# Altium footprint library CustomParts.PcbLib: 113 footprints (part 2 of 8)
Each footprint in its own frame and in the unit in brackets; x right, y up, seen from the top. Pads: shape width x height; smd on the part's side, far side on the other; paste and mask are expansions set on the pad; w line width, h text height; cw(c..) or ccw(c..) is an arc to the next point about the centre after c.
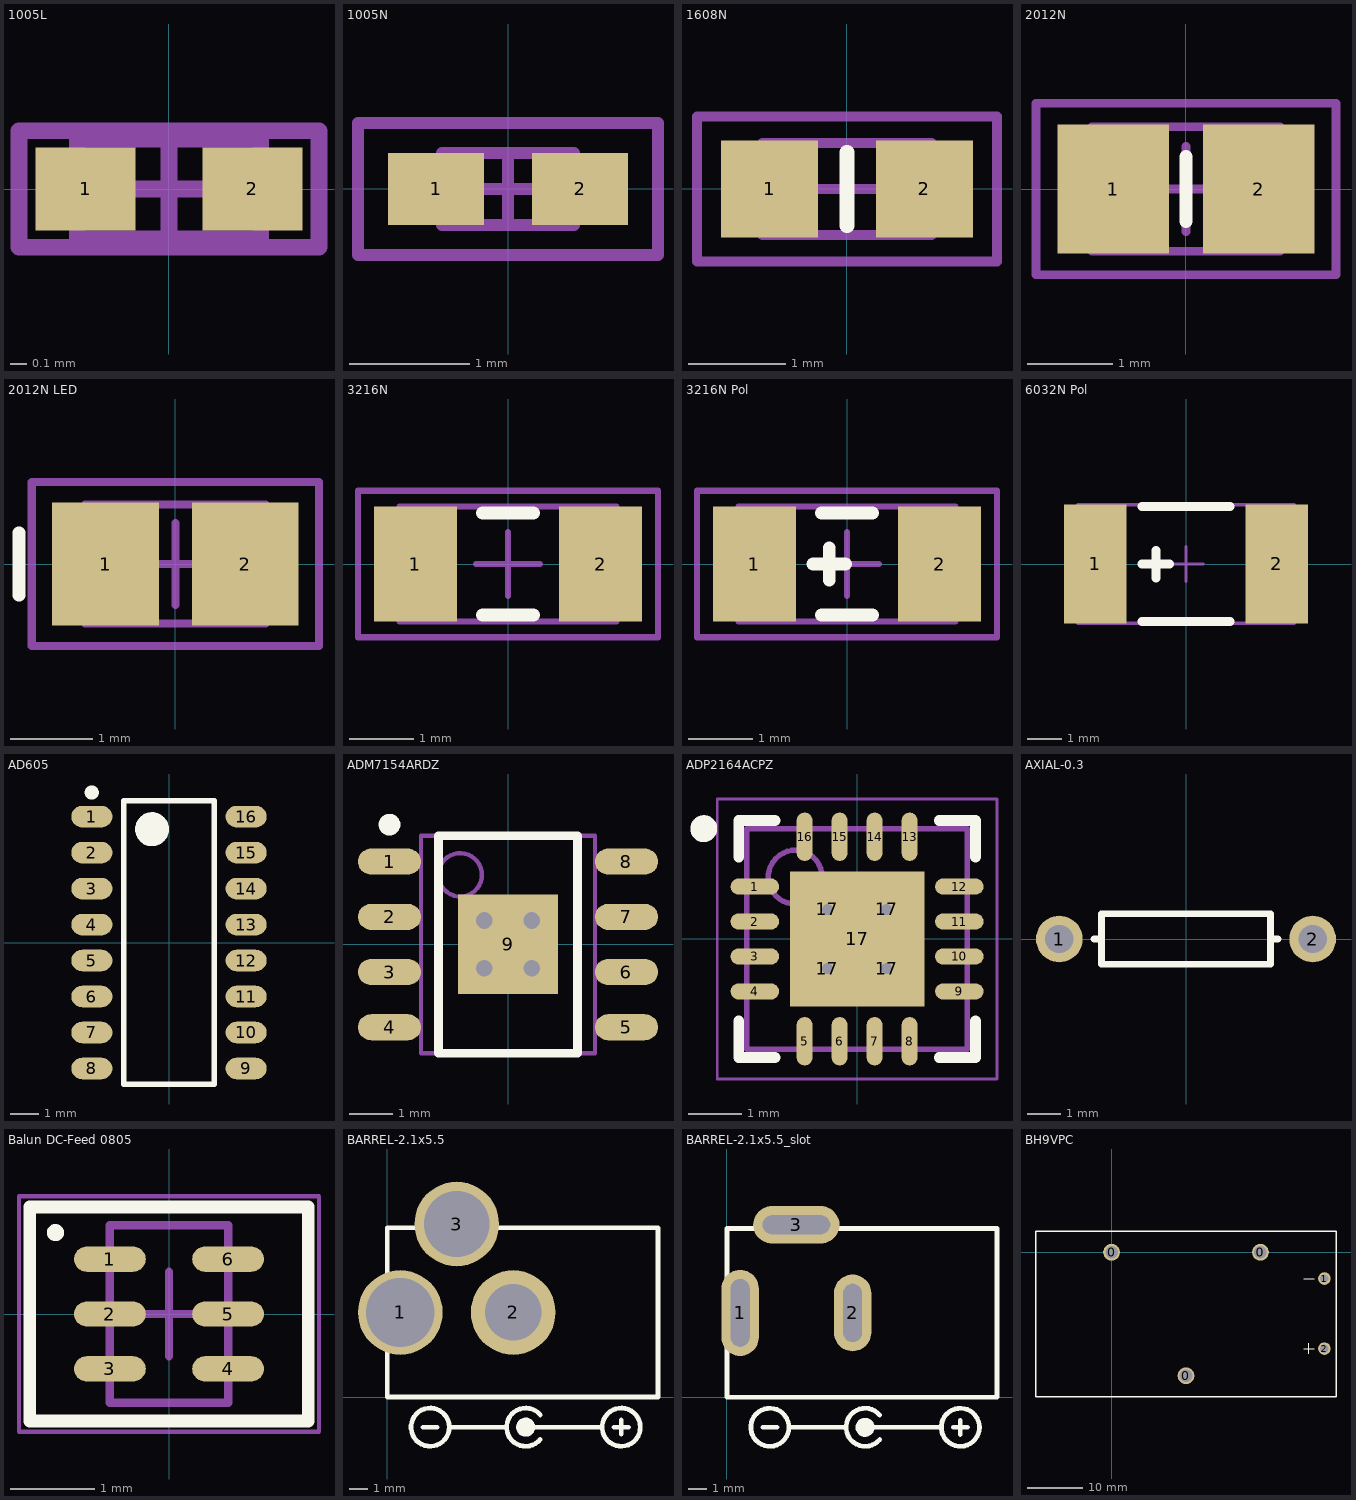
[diagram p1: the footprints below, top view; thin cyan lines are the x and y axes]

## 1005L [mm] "0402 (1005 Metric) from PCBfootprints_290709"
pads (2):
  rect 0.6x0.5 smd: 1(-0.5,0) 2(0.5,0)
Mechanical 13:
  lines w0.1: -0.55,-0.3 -0.55,0.3 0.55,0.3 0.55,-0.3 -0.55,-0.3
Mechanical 15:
  lines w0.1: -0.3,0 0.3,0 ; 0,-0.3 0,0.3 ; -0.9,-0.35 -0.9,0.35 0.9,0.35 0.9,-0.35 -0.9,-0.35
3D body: height 0.6, standoff 0, extent -0.55,-0.3 0.55,0.3

## 1005N [mm] "0402 (1005 Metric) from PCBfootprints_290709"
pads (2):
  rect 0.8x0.6 smd: 1(-0.6,0) 2(0.6,0)
Mechanical 13:
  lines w0.1: -0.55,-0.3 0.55,-0.3 0.55,0.3 -0.55,0.3 -0.55,-0.3
Mechanical 15:
  lines w0.1: -0.3,0 0.3,0 ; 0,-0.3 0,0.3 ; -1.25,-0.55 1.25,-0.55 1.25,0.55 -1.25,0.55 -1.25,-0.55
3D body: height 0.6, standoff 0, extent -0.55,-0.3 0.55,0.3

## 1608N [mm] "0603 (1608 Metric) from PCBfootprints_290709"
pads (2):
  rect 1x1 smd: 1(-0.8,0) 2(0.8,0)
Top Overlay:
  lines w0.152: 0,-0.381 0,0.381
Mechanical 13:
  lines w0.1: -0.875,-0.475 0.875,-0.475 0.875,0.475 -0.875,0.475 -0.875,-0.475
Mechanical 15:
  lines w0.1: -0.475,0 0.475,0 ; 0,-0.475 0,0.475 ; -1.55,-0.75 1.55,-0.75 1.55,0.75 -1.55,0.75 -1.55,-0.75
3D body: height 0.85, standoff 0, extent -0.875,-0.475 0.875,0.475

## 2012N [mm] "0805 (2012 Metric) from PCBfootprints_290709"
pads (2):
  rect 1.3x1.5 smd: 1(-0.85,0) 2(0.85,0)
Top Overlay:
  lines w0.152: 0,-0.381 0,0.381
Mechanical 13:
  lines w0.1: -1.1,-0.725 1.1,-0.725 1.1,0.725 -1.1,0.725 -1.1,-0.725
Mechanical 15:
  lines w0.1: -0.5,0 0.5,0 ; 0,-0.5 0,0.5 ; -1.75,-1 1.75,-1 1.75,1 -1.75,1 -1.75,-1
3D body: height 1.1, standoff 0, extent -1.1,-0.725 1.1,0.725

## 2012N LED [mm] "0805 (2012 Metric) from PCBfootprints_290709"
pads (2):
  rect 1.3x1.5 smd: 1(-0.85,0) 2(0.85,0)
Top Overlay:
  lines w0.152: -1.905,-0.381 -1.905,0.381
Mechanical 13:
  lines w0.1: -1.1,-0.725 1.1,-0.725 1.1,0.725 -1.1,0.725 -1.1,-0.725
Mechanical 15:
  lines w0.1: -0.5,0 0.5,0 ; 0,-0.5 0,0.5 ; -1.75,-1 1.75,-1 1.75,1 -1.75,1 -1.75,-1
3D body: height 1.1, standoff 0, extent -1.1,-0.725 1.1,0.725

## 3216N [mm] "1206 (3216 Metric) from PCBfootprints_290709"
pads (2):
  rect 1.3x1.8 smd: 1(-1.45,0) 2(1.45,0)
Top Overlay:
  lines w0.2: -0.4,-0.8 0.4,-0.8 ; -0.4,0.8 0.4,0.8
Mechanical 13:
  lines w0.1: -1.7,-0.9 -1.7,0.9 1.7,0.9 1.7,-0.9 -1.7,-0.9
Mechanical 15:
  lines w0.1: -0.5,0 0.5,0 ; 0,-0.5 0,0.5 ; -2.35,-1.15 -2.35,1.15 2.35,1.15 2.35,-1.15 -2.35,-1.15
3D body: height 1.35, standoff 0, extent -1.7,-0.9 1.7,0.9

## 3216N Pol [mm] "1206 (3216 Metric) from PCBfootprints_290709"
pads (2):
  rect 1.3x1.8 smd: 1(-1.45,0) 2(1.45,0)
Top Overlay:
  lines w0.2: -0.533,0 -0.025,0 ; -0.4,-0.8 0.4,-0.8 ; -0.4,0.8 0.4,0.8 ; -0.279,-0.254 -0.279,0.254
Mechanical 13:
  lines w0.1: -1.7,-0.9 -1.7,0.9 1.7,0.9 1.7,-0.9 -1.7,-0.9
Mechanical 15:
  lines w0.1: -0.5,0 0.5,0 ; 0,-0.5 0,0.5 ; -2.35,-1.15 -2.35,1.15 2.35,1.15 2.35,-1.15 -2.35,-1.15
3D body: height 1.35, standoff 0, extent -1.7,-0.9 1.7,0.9

## 6032N Pol [mm] "2312 (6032 Metric)"
pads (2):
  rect 1.8x3.4 smd: 1(-2.6,0) 2(2.6,0)
Top Overlay:
  lines w0.254: -1.27,-1.651 1.27,-1.651 ; -1.27,0 -0.47,0 ; -1.27,1.651 1.27,1.651 ; -0.864,-0.406 -0.864,0.394
Mechanical 13:
  lines w0.1: -3.1,-1.7 -3.1,1.7 3.1,1.7 3.1,-1.7 -3.1,-1.7
Mechanical 15:
  lines w0.1: -0.5,0 0.5,0 ; 0,-0.5 0,0.5
3D body: height 2.6, standoff 0, extent -3.099,-1.702 3.099,1.702

## AD605 [mm] "ALtium Generated 16-SOIC (3.90mm Width)"
height 1.75
pads (16):
  oval 1.45x0.762 smd: 1(-2.725,4.445) 2(-2.725,3.175) 3(-2.725,1.905) 4(-2.725,0.635) 5(-2.725,-0.635) 6(-2.725,-1.905) 7(-2.725,-3.175) 8(-2.725,-4.445) 9(2.725,-4.445) 10(2.725,-3.175) 11(2.725,-1.905) 12(2.725,-0.635) 13(2.725,0.635) 14(2.725,1.905) 15(2.725,3.175) 16(2.725,4.445)
Top Overlay:
  circle w0.25: c-2.725,5.295 r0.125
  circle w0.6: c-0.6,4 r0.3
  lines w0.2: -1.6,-5 -1.6,5 1.6,5 1.6,-5 -1.6,-5
3D body: height 1.75, standoff 0.1, extent -2,-5 2,5

## ADM7154ARDZ [mm] "SOIC, 8-Leads, Body 4.90x3.90mm, Pitch 1.27mm, Thermal Pad 2.29x2.29mm, IPC Medium Density"
height 1.75
pads (9):
  oval 1.45x0.6 smd: 1(-2.725,1.905) 2(-2.725,0.635) 3(-2.725,-0.635) 4(-2.725,-1.905) 5(2.725,-1.905) 6(2.725,-0.635) 7(2.725,0.635) 8(2.725,1.905)
  rect 2.29x2.29 smd: 9(0,0)
via -0.55,0.55 diameter 0.762 hole 0.381
via 0.55,0.55 diameter 0.762 hole 0.381
via -0.55,-0.55 diameter 0.762 hole 0.381
via 0.55,-0.55 diameter 0.762 hole 0.381
Top Overlay:
  circle w0.25: c-2.725,2.755 r0.125
  lines w0.2: -1.6,-2.5 -1.6,2.5 1.6,2.5 1.6,-2.5 -1.6,-2.5
Mechanical 13:
  circle w0.1: c-1.1,1.6 r0.5
  lines w0.1: -2,-2.5 -2,2.5 2,2.5 2,-2.5 -2,-2.5
3D body: height 1.75, standoff 0.05, extent -2,-2.5 2,2.5

## ADP2164ACPZ [mm] "QFN, 16-Leads, Body 4.00x4.00mm, Pitch 0.65mm, Thermal Pad 2.50x2.50mm, IPC Medium Density"
height 0.8
pads (21):
  oval 0.9x0.3 smd: 1(-1.9,0.975) 2(-1.9,0.325) 3(-1.9,-0.325) 4(-1.9,-0.975) 9(1.9,-0.975) 10(1.9,-0.325) 11(1.9,0.325) 12(1.9,0.975)
  oval 0.3x0.9 smd: 5(-0.975,-1.9) 6(-0.325,-1.9) 7(0.325,-1.9) 8(0.975,-1.9) 13(0.975,1.9) 14(0.325,1.9) 15(-0.325,1.9) 16(-0.975,1.9)
  round 0.508 hole 0.203: 17(-0.55,-0.55) 17(-0.55,0.55) 17(0.55,-0.55) 17(0.55,0.55)
  rect 2.5x2.5 smd: 17(0,0)
Top Overlay:
  circle w0.25: c-2.85,2.05 r0.125
  lines w0.2: -2.2,-1.525 -2.2,-2.2 -1.525,-2.2 ; -2.2,1.525 -2.2,2.2 -1.525,2.2 ; 1.525,-2.2 2.2,-2.2 2.2,-1.525 ; 1.525,2.2 2.2,2.2 2.2,1.525
Mechanical 13:
  circle w0.1: c-1.15,1.15 r0.5
  lines w0.1: -2.05,-2.05 2.05,-2.05 2.05,2.05 -2.05,2.05 -2.05,-2.05
Mechanical 15:
  lines w0.05: -2.6,-2.6 2.6,-2.6 2.6,2.6 -2.6,2.6 -2.6,-2.6
  lines w0.1: -0.5,0 0.5,0 ; 0,-0.5 0,0.5
3D body "QFN65P400X400X80_HS-17N.step": height 0.8, standoff 0, extent -2.07,-2.07 2.07,2.07

## AXIAL-0.3 [mm] "Axial Device, Thru-Hole; 2 Leads; 0.3 in Pin Spacing"
height 1.524
pads (2):
  round 1.4 hole 0.85: 1(-3.81,0) 2(3.81,0)
Top Overlay:
  lines w0.203: -2.769,0 -2.54,0 ; 2.769,0 2.54,0 ; 2.54,0 2.54,-0.762 -2.54,-0.762 -2.54,0.762 2.54,0.762 2.54,0

## Balun DC-Feed 0805 [mm] "Chip Array, Flat, 6-Leads, Pitch 0.65mm,  Body 2.00x1.25mm,  IPC Medium Density"
height 0.7
pads (6):
  oval 0.85x0.3 smd: 1(-0.7,0.65) 2(-0.7,0) 3(-0.7,-0.65) 4(0.7,-0.65) 5(0.7,0) 6(0.7,0.65)
Top Overlay:
  circle w0.102: c-1.346,0.965 r0.051
  lines w0.152: -1.651,-1.27 1.651,-1.27 1.651,1.27 -1.651,1.27 -1.651,-1.27
Mechanical 13:
  lines w0.1: -0.7,-1.05 0.7,-1.05 0.7,1.05 -0.7,1.05 -0.7,-1.05
Mechanical 15:
  lines w0.05: -1.778,-1.397 1.778,-1.397 1.778,1.397 -1.778,1.397 -1.778,-1.397
  lines w0.1: -0.5,0 0.5,0 ; 0,-0.5 0,0.5
3D body "BAL.step": height 0.8, standoff 0, extent -0.725,-1.05 0.725,1.05

## BARREL-2.1x5.5 [mm] "Barrel Power Connector Male 2.1mm ID, 5.5mm OD, ex: EJ508A"
pads (3):
  round 4.5 hole 3.65: 1(0.7,4.5)
  round 4.5 hole 3: 2(6.7,4.5)
  round 4.5 hole 3.5: 3(3.7,9.2)
Top Overlay:
  circle w0.508: c7.366,-1.6 r0.254
  circle w0.254: c12.446,-1.6 r1.016
  circle w0.254: c2.286,-1.6 r1.016
  lines w0.254: 1.905,-1.6 2.667,-1.6 ; 3.302,-1.6 6.35,-1.6 ; 7.366,-1.6 11.43,-1.6 ; 8.144,-2.253 cw(c7.366,-1.6) 8.144,-0.947 ; 12.065,-1.6 12.827,-1.6 ; 12.446,-1.981 12.446,-1.219 ; 0,0 14.4,0 14.4,9 0,9 0,0
3D body: height 11, standoff 0, extent 0,0 14.402,9.017

## BARREL-2.1x5.5_slot [mm] "Barrel Power Connector Male 2.1mm ID, 5.5mm OD, ex: EJ508A"
pads (3):
  oval 2x4.6 hole 1 slot 3.6 at 90 deg: 1(0.7,4.5)
  oval 2x4.1 hole 1 slot 3.1 at 90 deg: 2(6.7,4.5)
  oval 4.6x2 hole 1 slot 3.6 at 0 deg: 3(3.7,9.2)
Top Overlay:
  circle w0.254: c2.286,-1.6 r1.016
  circle w0.254: c12.446,-1.6 r1.016
  circle w0.508: c7.366,-1.6 r0.254
  lines w0.254: 1.905,-1.6 2.667,-1.6 ; 3.302,-1.6 6.35,-1.6 ; 7.366,-1.6 11.43,-1.6 ; 8.144,-2.253 cw(c7.366,-1.6) 8.144,-0.947 ; 12.065,-1.6 12.827,-1.6 ; 12.446,-1.981 12.446,-1.219 ; 0,0 0,9 14.4,9 14.4,0 0,0
3D body: height 11, standoff 0, extent 0,0 14.402,9.017

## BH9VPC [mil] "9 volt battery holder"
pads (5):
  round 120 hole 90: 0(0,0) 0(531,-880) 0(1062,0)
  round 90 hole 60: 1(1518,-187) 2(1518,-687)
Top Overlay:
  lines w8: 1370,-687 1445,-687 ; 1370,-187 1445,-187 ; 1408,-725 1408,-650
  lines w10: -539,-1030 1601,-1030 1601,150 -539,150 -539,-1030